# Altium integrated library 20021121.IntLib: 3 symbols
Pins are listed as number, name and electrical type; pins without a type are passive.

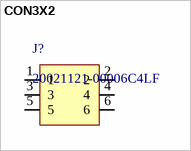
[diagram p0: symbol CON3X2]

## CON3X2
designator J?, comment 20021121-00006C4LF
PDF: http://portal.fciconnect.com/Comergent//fci/drawing/20021121.pdf; BUY_LINK: http://www.digikey.com/product-detail/en/20021121-00006C4LF/609-3693-2-ND/2209053; PRICE: 0.30000; ID: 20021121-00006C4LF
footprint 20021121-00006C4LF
footprint 20021121-00006C4LF
pins: 1, 2, 3, 4, 5, 6


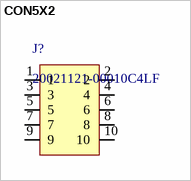
[diagram p1: symbol CON5X2]

## CON5X2
designator J?, comment 20021121-00010C4LF
PDF: http://portal.fciconnect.com/Comergent//fci/drawing/20021121.pdf; BUY_LINK: http://www.digikey.com/product-detail/en/20021121-00010C4LF/609-3695-1-ND/2209147; PRICE: 0.80000; ID: 20021121-00010C4LF
footprint 20021121-00010C4LF
pins: 1, 2, 3, 4, 5, 6, 7, 8, 9, 10


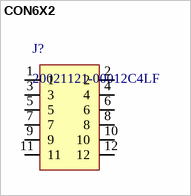
[diagram p2: symbol CON6X2]

## CON6X2
designator J?, comment 20021121-00012C4LF
PDF: http://portal.fciconnect.com/Comergent//fci/drawing/20021121.pdf; BUY_LINK: http://www.digikey.com/product-detail/en/20021121-00012C4LF/609-3696-1-ND/2209150; PRICE: 0.96000; ID: 20021121-00012C4LF
footprint 20021121-00012C4LF
pins: 1, 2, 3, 4, 5, 6, 7, 8, 9, 10, 11, 12